# EAGLE library part INA3221AIRGVR (library INA3221AIRGVR)
Check prices <https://pricing.snapeda.com/parts/INA3221AIRGVR/Texas%20Instruments/view-part?ref=eda>
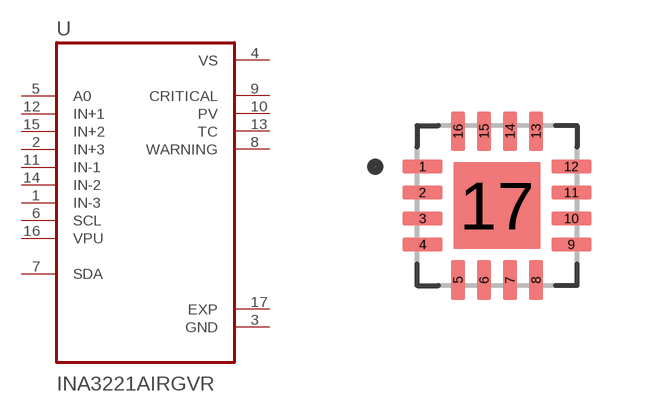
[diagram p0: symbol with the pads of QFN65P400X400X100-17N; footprint QFN65P400X400X100-17N]

Designator prefix U

## INA3221AIRGVR (Availability: Warning; Description: 26V, triple channel, 13-bit, i2c output current/voltage monitor w/alerts 16-VQFN -40 to 125; MF: Texas Instruments; MP: INA3221AIRGVR; Package: VQFN-16 Texas Instruments; Price: None; Purchase-URL: https://pricing.snapeda.com/search/part/INA3221AIRGVR/?ref=eda)  [QFN65P400X400X100-17N]
1  IN-3  in
2  IN+3  in
3  GND  pwr
4  VS  pwr
5  A0  in
6  SCL  in
7  SDA
8  WARNING  out
9  CRITICAL  out
10  PV  out
11  IN-1  in
12  IN+1  in
13  TC  out
14  IN-2  in
15  IN+2  in
16  VPU  in
17  EXP  pwr

## Footprint QFN65P400X400X100-17N (pad centres in mm)
smd 0.99 x 0.34: 1 -1.86,0.975; 2 -1.86,0.325; 3 -1.86,-0.325; 4 -1.86,-0.975; 9 1.86,-0.975; 10 1.86,-0.325; 11 1.86,0.325; 12 1.86,0.975
smd 0.34 x 0.99: 5 -0.975,-1.86; 6 -0.325,-1.86; 7 0.325,-1.86; 8 0.975,-1.86; 13 0.975,1.86; 14 0.325,1.86; 15 -0.325,1.86; 16 -0.975,1.86
smd 2.16 x 2.16: 17 0,0